# Altium footprint library MainBoard.PcbLib: 34 footprints (part 2 of 3)
Each footprint in its own frame and in the unit in brackets; x right, y up, seen from the top. Pads: shape width x height; smd on the part's side, far side on the other; paste and mask are expansions set on the pad; w line width, h text height; cw(c..) or ccw(c..) is an arc to the next point about the centre after c.
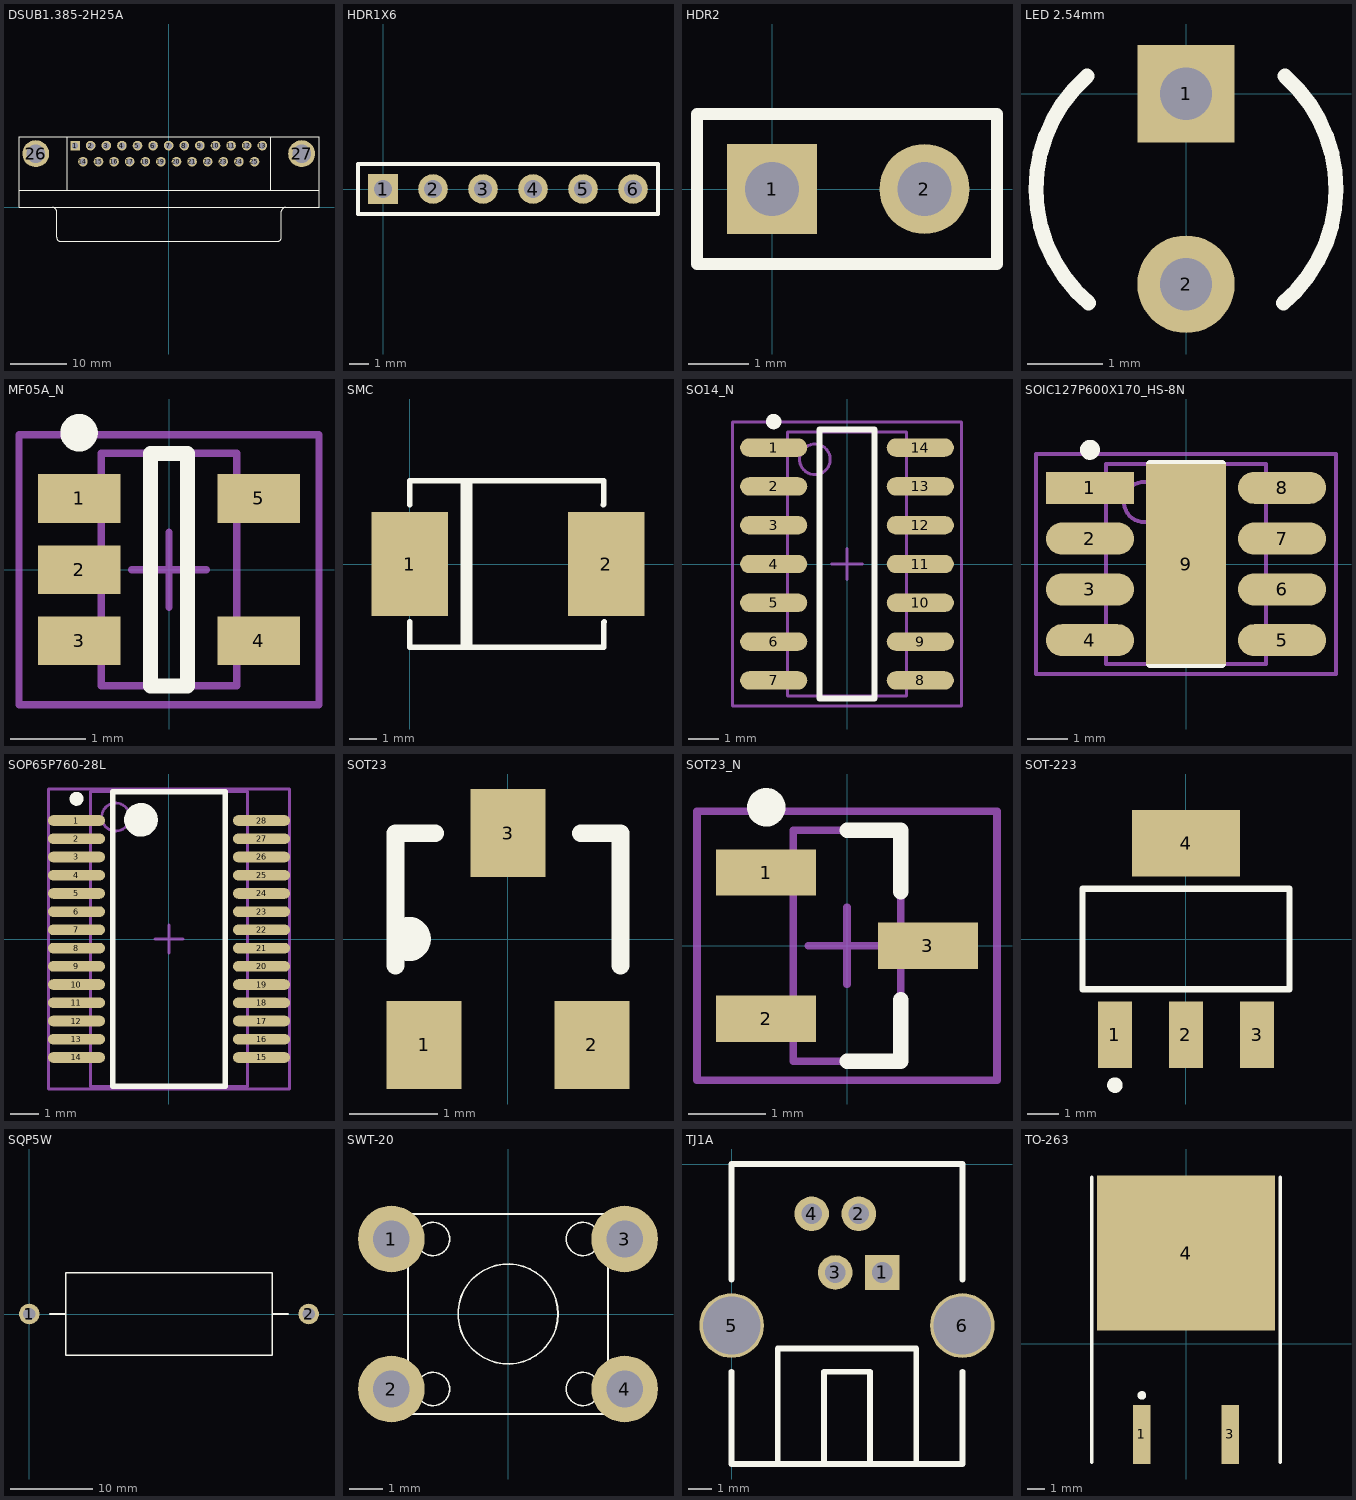
[diagram p1: the footprints below, top view; thin cyan lines are the x and y axes]

## DSUB1.385-2H25A [mm]
pads (27):
  rect 1.7x1.7 hole 1.1: 1(-16.566,10.92)
  round 1.7 hole 1.1: 2(-13.805,10.92) 3(-11.044,10.92) 4(-8.283,10.92) 5(-5.522,10.92) 6(-2.761,10.92) 7(0,10.92) 8(2.761,10.92) 9(5.522,10.92) 10(8.283,10.92) 11(11.044,10.92) 12(13.805,10.92) 13(16.566,10.92) 14(-15.185,8.08) 15(-12.424,8.08) 16(-9.663,8.08) 17(-6.902,8.08) 18(-4.141,8.08) 19(-1.38,8.08) 20(1.381,8.08) 21(4.142,8.08) 22(6.903,8.08) 23(9.664,8.08) 24(12.425,8.08) 25(15.186,8.08)
  round 4.76 hole 3.26: 26(-23.526,9.5) 27(23.526,9.5)
Top Overlay:
  lines w0.2: -26.496,3 26.604,3 ; -20.541,-0.005 cw(c-20.541,-0.7) -19.846,-0.7 -19.846,-5.3 ; -19.841,-5.305 ccw(c-19.146,-5.305) -19.146,-6 19.254,-6 ccw(c19.254,-5.305) 19.949,-5.305 ; -17.946,3 -17.946,12.5 ; 18.054,3 18.054,12.5 ; 19.954,-5.3 19.954,-0.7 cw(c20.649,-0.7) 20.649,-0.005 ; -26.496,0 26.604,0 26.604,12.5 -26.496,12.5 -26.496,0
Bottom Overlay:
  text "13" at 20.25,10.25 h1.5
  text "25" at 19.25,7.5 h1.5
  text "14" at -17.25,7.5 h1.5
  text "1" at -18.25,10.25 h1.5

## HDR1X6 [mm]
pads (6):
  rect 1.5x1.5 hole 0.9: 1(0,0)
  round 1.5 hole 0.9: 2(2.54,0) 3(5.08,0) 4(7.62,0) 5(10.16,0) 6(12.7,0)
Top Overlay:
  lines w0.2: -1.27,-1.27 13.97,-1.27 13.97,1.27 -1.27,1.27 -1.27,-1.27

## HDR2 [mm]
pads (2):
  rect 1.5x1.5 hole 0.9: 1(0,0)
  round 1.5 hole 0.9: 2(2.54,0)
Top Overlay:
  lines w0.2: -1.25,-1.25 3.75,-1.25 3.75,1.25 -1.25,1.25 -1.25,-1.25

## LED 2.54mm [mm]
pads (2):
  rect 1.3x1.3 hole 0.7: 1(0,0)
  round 1.3 hole 0.7: 2(0,-2.54)
Top Overlay:
  lines w0.2: -1.319,0.234 ccw(c0,-1.27) -1.298,-2.792 ; 1.298,-2.792 ccw(c0,-1.27) 1.319,0.234

## MF05A_N [mm]
pads (5):
  rect 1.1x0.65 smd: 1(-1.2,0.95) 2(-1.2,0) 3(-1.2,-0.95) 4(1.2,-0.95) 5(1.2,0.95)
Top Overlay:
  circle w0.25: c-1.2,1.825 r0.125
  lines w0.2: -0.25,-1.55 0.25,-1.55 0.25,1.55 -0.25,1.55 -0.25,-1.55
Mechanical 13:
  lines w0.1: -0.9,-1.55 -0.9,1.55 0.9,1.55 0.9,-1.55 -0.9,-1.55
Mechanical 15:
  lines w0.1: -0.5,0 0.5,0 ; 0,-0.5 0,0.5 ; -2,-1.8 -2,1.8 2,1.8 2,-1.8 -2,-1.8
3D body: height 1.22, standoff 0, extent -0.9,-1.55 0.9,1.55

## SMC [mm]
pads (2):
  rect 2.8x3.8 smd: 1(0,0) 2(7.2,0)
Top Overlay:
  lines w0.2: 0,-2.125 0,-3.048 7.112,-3.048 7.112,-2.138 7.125,-2.125 ; 0,2.175 0,3.048 7.112,3.048 7.112,2.187 7.1,2.175 ; 1.95,-3.048 1.95,3.048 ; 2.05,-3.048 2.075,-3.023 2.075,3.048 ; 2.2,-3.048 2.2,3.048

## SO14_N [mm]
pads (14):
  oval 2.2x0.6 smd: 1(-2.4,3.81) 2(-2.4,2.54) 3(-2.4,1.27) 4(-2.4,0) 5(-2.4,-1.27) 6(-2.4,-2.54) 7(-2.4,-3.81) 8(2.4,-3.81) 9(2.4,-2.54) 10(2.4,-1.27) 11(2.4,0) 12(2.4,1.27) 13(2.4,2.54) 14(2.4,3.81)
Top Overlay:
  circle w0.25: c-2.4,4.66 r0.125
  lines w0.2: -0.9,-4.4 -0.9,4.4 0.9,4.4 0.9,-4.4 -0.9,-4.4
Mechanical 13:
  circle w0.1: c-1.05,3.425 r0.5
  lines w0.1: -1.95,-4.325 -1.95,4.325 1.95,4.325 1.95,-4.325 -1.95,-4.325
Mechanical 15:
  lines w0.1: -0.5,0 0.5,0 ; 0,-0.5 0,0.5 ; -3.75,-4.65 -3.75,4.65 3.75,4.65 3.75,-4.65 -3.75,-4.65
3D body: height 1.75, standoff 0, extent -1.95,-4.325 1.95,4.325

## SOIC127P600X170_HS-8N [mm]
pads (9):
  rect 2.2x0.8 smd: 1(-2.4,1.905)
  oval 2.2x0.8 smd: 2(-2.4,0.635) 3(-2.4,-0.635) 4(-2.4,-1.905) 5(2.4,-1.905) 6(2.4,-0.635) 7(2.4,0.635) 8(2.4,1.905)
  rect 2x5 smd: 9(0,0)
Top Overlay:
  circle w0.25: c-2.4,2.855 r0.125
  lines w0.2: -0.9,-2.5 0.9,-2.5 ; -0.9,2.5 0.9,2.5
Mechanical 13:
  circle w0.1: c-1.05,1.55 r0.5
  lines w0.1: -2,-2.5 2,-2.5 2,2.5 -2,2.5 -2,-2.5
Mechanical 15:
  lines w0.1: -0.5,0 0.5,0 ; 0,-0.5 0,0.5 ; -3.75,-2.75 3.75,-2.75 3.75,2.75 -3.75,2.75 -3.75,-2.75
3D body: height 1.7, standoff 0, extent -2,-2.5 2,2.5

## SOP65P760-28L [mm]
pads (28):
  oval 2.032x0.381 smd: 1(-3.3,4.225) 2(-3.3,3.575) 3(-3.3,2.925) 4(-3.3,2.275) 5(-3.3,1.625) 6(-3.3,0.975) 7(-3.3,0.325) 8(-3.3,-0.325) 9(-3.3,-0.975) 10(-3.3,-1.625) 11(-3.3,-2.275) 12(-3.3,-2.925) 13(-3.3,-3.575) 14(-3.3,-4.225) 15(3.3,-4.225) 16(3.3,-3.575) 17(3.3,-2.925) 18(3.3,-2.275) 19(3.3,-1.625) 20(3.3,-0.975) 21(3.3,-0.325) 22(3.3,0.325) 23(3.3,0.975) 24(3.3,1.625) 25(3.3,2.275) 26(3.3,2.925) 27(3.3,3.575) 28(3.3,4.225)
Top Overlay:
  circle w0.25: c-3.3,5 r0.125
  circle w0.6: c-1,4.25 r0.3
  lines w0.2: -2,-5.25 -2,5.25 2,5.25 2,-5.25 -2,-5.25
Mechanical 13:
  circle w0.1: c-1.9,4.35 r0.5
  lines w0.1: -2.8,-5.25 -2.8,5.25 2.8,5.25 2.8,-5.25 -2.8,-5.25
Mechanical 15:
  lines w0.1: -0.5,0 0.5,0 ; 0,-0.5 0,0.5 ; -4.3,-5.35 -4.3,5.35 4.3,5.35 4.3,-5.35 -4.3,-5.35
3D body: height 2, standoff 0, extent -2.8,-5.25 2.8,5.25

## SOT23 [mm]
pads (3):
  rect 0.85x1 smd: 1(-0.95,-1.2) 2(0.95,-1.2) 3(0,1.2)
Top Overlay:
  circle w0.25: c-1.125,0 r0.125
  lines w0.2: -1.275,-0.3 -1.275,1.2 -0.825,1.2 ; 0.825,1.2 1.275,1.2 1.275,-0.3

## SOT23_N [mm]
pads (3):
  rect 1.3x0.6 smd: 1(-1.05,0.95) 2(-1.05,-0.95) 3(1.05,0)
Top Overlay:
  circle w0.25: c-1.05,1.8 r0.125
  lines w0.2: 0,-1.5 0.7,-1.5 0.7,-0.7 ; 0,1.5 0.7,1.5 0.7,0.7
Mechanical 13:
  lines w0.1: -0.7,-1.5 0.7,-1.5 0.7,1.5 -0.7,1.5 -0.7,-1.5
Mechanical 15:
  lines w0.1: -0.5,0 0.5,0 ; 0,-0.5 0,0.5 ; -1.95,-1.75 1.95,-1.75 1.95,1.75 -1.95,1.75 -1.95,-1.75
3D body: height 1.1, standoff 0, extent -0.7,-1.5 0.7,1.5

## SOT-223 [mm]
pads (4):
  rect 1.1x2.15 smd: 1(-2.3,-3.1) 2(0,-3.1) 3(2.3,-3.1)
  rect 3.5x2.15 smd: 4(0,3.1)
Top Overlay:
  circle w0.25: c-2.3,-4.725 r0.125
  lines w0.2: -3.35,-1.625 -3.35,1.625 3.35,1.625 3.35,-1.625 -3.35,-1.625

## SQP5W [mm]
pads (2):
  round 2.5 hole 1.5: 1(0,0) 2(34,0)
Top Overlay:
  lines w0.2: 2.5,0 4.425,0 ; 29.575,0 31.5,0 ; 4.425,0 4.425,-5 29.575,-5 29.575,5 4.425,5 4.425,0

## SWT-20 [mm]
pads (4):
  round 2 hole 1.1: 1(-3.5,2.25) 2(-3.5,-2.25) 3(3.5,2.25) 4(3.5,-2.25)
Top Overlay:
  circle w0.05: c-2.25,-2.25 r0.5
  circle w0.05: c-2.25,2.25 r0.5
  circle w0.05: c2.25,-2.25 r0.5
  circle w0.05: c2.25,2.25 r0.5
  circle w0.05: c0,0 r1.5
  lines w0.05: -3,-2.75 -3.5,-2.75 -3.5,-2.5 -3.5,-1.75 -3,-1.75 ; -3,1.75 -3.5,1.75 -3.5,2.75 -3,2.75 ; 3,-2.75 3.5,-2.75 3.5,-1.75 3,-1.75 ; 3,1.75 3.5,1.75 3.5,2.75 3,2.75 ; -3,-3 -3,3 3,3 3,-3 -3,-3

## TJ1A [mm]
pads (6):
  rect 1.5x1.5 hole 0.9: 1(6.53,-4.685)
  round 1.5 hole 0.9: 2(5.51,-2.145) 3(4.49,-4.685) 4(3.47,-2.145)
  round 2.8 hole 2.5: 5(0,-6.985) 6(10,-6.985)
Top Overlay:
  lines w0.254: 0,-8.985 0,-12.985 10,-12.985 10,-8.985 ; 0,-4.985 0,0.015 10,0.015 10,-4.985 ; 2,-12.985 2,-7.985 8,-7.985 8,-12.985 ; 4,-12.985 4,-8.985 6,-8.985 6,-12.985

## TO-263 [mm]
pads (3):
  rect 1x3.4 smd: 1(-2.54,-5.225) 3(2.54,-5.225)
  rect 10.25x8.9 smd: 4(0,5.225)
Top Overlay:
  circle w0.25: c-2.54,-2.975 r0.125
  lines w0.2: -5.425,-6.825 -5.425,9.575 ; 5.425,-6.825 5.425,9.575